# EAGLE library part XH_6POS_DEV (library blizzard_common_1)
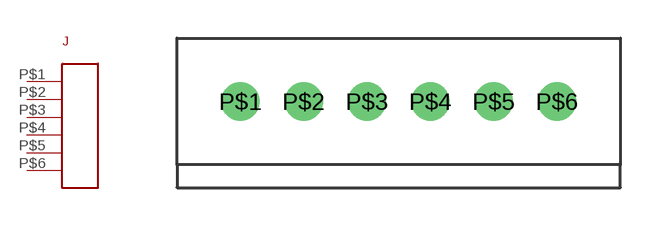
[diagram p1: symbol with the pads of XH_6POS_PKG; footprint XH_6POS_PKG]

Designator prefix J

## XH_6POS_DEV  [XH_6POS_PKG]
P$1  P$1
P$2  P$2
P$3  P$3
P$4  P$4
P$5  P$5
P$6  P$6

## Footprint XH_6POS_PKG (pad centres in mm)
drill 1: P$1 -6.25,0; P$2 -3.75,0; P$3 -1.25,0; P$4 1.25,0; P$5 3.75,0; P$6 6.25,0